# EAGLE library part SCW20A-15 (library SCW20A-15)
Module DC-DC 12VIN 1-OUT 15V 1.333A 20W 9-Pin DIP Module Source: Datasheet <https://www.meanwell-web.com/content/files/pdfs/productPdfs/MW/SCW20/SCW20-spec.pdf>
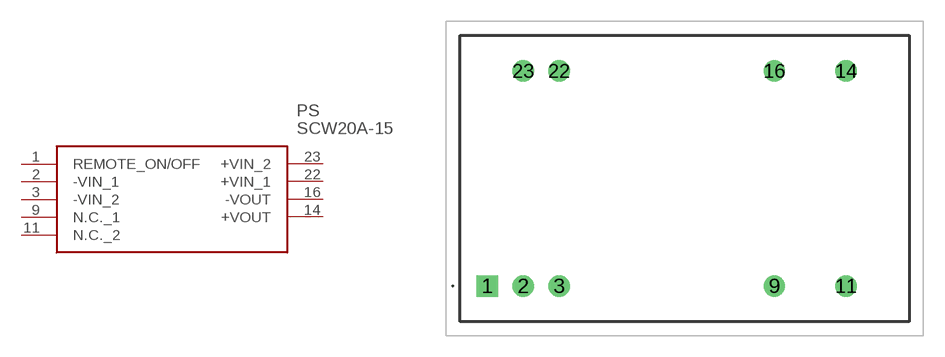
[diagram p0: symbol with the pads of SCW20A15; footprint SCW20A15]

Designator prefix PS

## SCW20A-15 (Description: Module DC-DC 12VIN 1-OUT 15V 1.333A 20W 9-Pin DIP Module; Height: 12.7mm; Manufacturer_Name: Mean Well; Manufacturer_Part_Number: SCW20A-15; Mouser_Part_Number: 709-SCW20A-15; Mouser_Price-Stock: https://www.mouser.com/Search/Refine.aspx?Keyword=709-SCW20A-15)  [SCW20A15]
1  REMOTE_ON/OFF
2  -VIN_1
3  -VIN_2
9  N.C._1
11  N.C._2
14  +VOUT
16  -VOUT
22  +VIN_1
23  +VIN_2

## Footprint SCW20A15 (pad centres in mm)
SCW20A-15-1
drill 1 pad 1.5 square: 1 0,0
drill 1 pad 1.5: 2 2.54,0; 3 5.08,0; 9 20.32,0; 11 25.4,0; 14 25.4,15.24; 16 20.32,15.24; 22 5.08,15.24; 23 2.54,15.24